# EAGLE library part PN_MOSFET- (library zetex)
DUAL N AND P-CHANNEL ENHANCEMENT MODE MOSFET Source: Data sheet <http://www.farnell.com/datasheets/1693880.pdf>
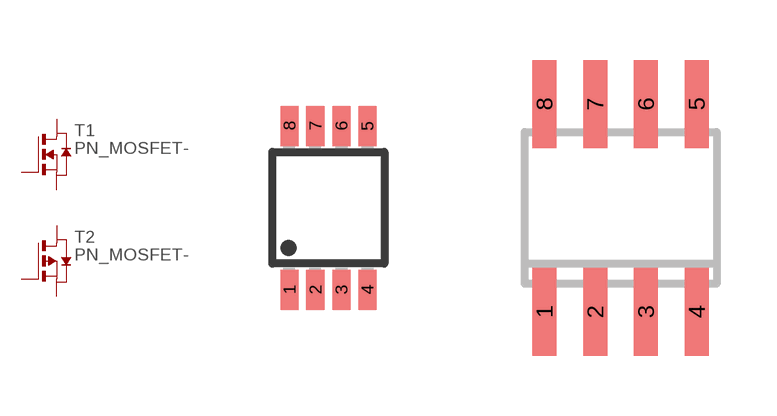
[diagram p7: symbol with the pads of MSOP8; footprints MSOP8, SO8]

Designator prefix T; gates 2=P_MOSFET 1=N_MOSFET

## PN_MOSFET-MSOP8 (OC_FARNELL: unknown; OC_NEWARK: unknown)  [MSOP8]
1  1:S  pas
2  1:G  pas
3  2:S  pas
4  2:G  pas
5  2:D  pas
6  2:D  pas
7  1:D  pas
8  1:D  pas

## PN_MOSFET-SO8 (OC_FARNELL: unknown; OC_NEWARK: unknown)  [SO8]
Pads as for MSOP8

## Footprint MSOP8 (pad centres in mm)
Micro Small Outline Package
smd 0.45 x 1: 1 -0.975,-2.05; 2 -0.325,-2.05; 3 0.325,-2.05; 4 0.975,-2.05; 5 0.975,2.05; 6 0.325,2.05; 7 -0.325,2.05; 8 -0.975,2.05

## Footprint SO8 (pad centres in mm)
SMALL OUTLINE INTEGRATED CIRCUIT SOP-8L Source: http://www.diodes.com/datasheets/ds31262.pdf
smd 0.6 x 2.2: 1 -1.905,-2.6; 2 -0.635,-2.6; 3 0.635,-2.6; 4 1.905,-2.6; 5 1.905,2.6; 6 0.635,2.6; 7 -0.635,2.6; 8 -1.905,2.6